# Altium footprint library Protel 99SE BANKS PCB.PCBLIB: 278 footprints (part 11 of 18)
Each footprint in its own frame and in the unit in brackets; x right, y up, seen from the top. Pads: shape width x height; smd on the part's side, far side on the other; paste and mask are expansions set on the pad; w line width, h text height; cw(c..) or ccw(c..) is an arc to the next point about the centre after c.
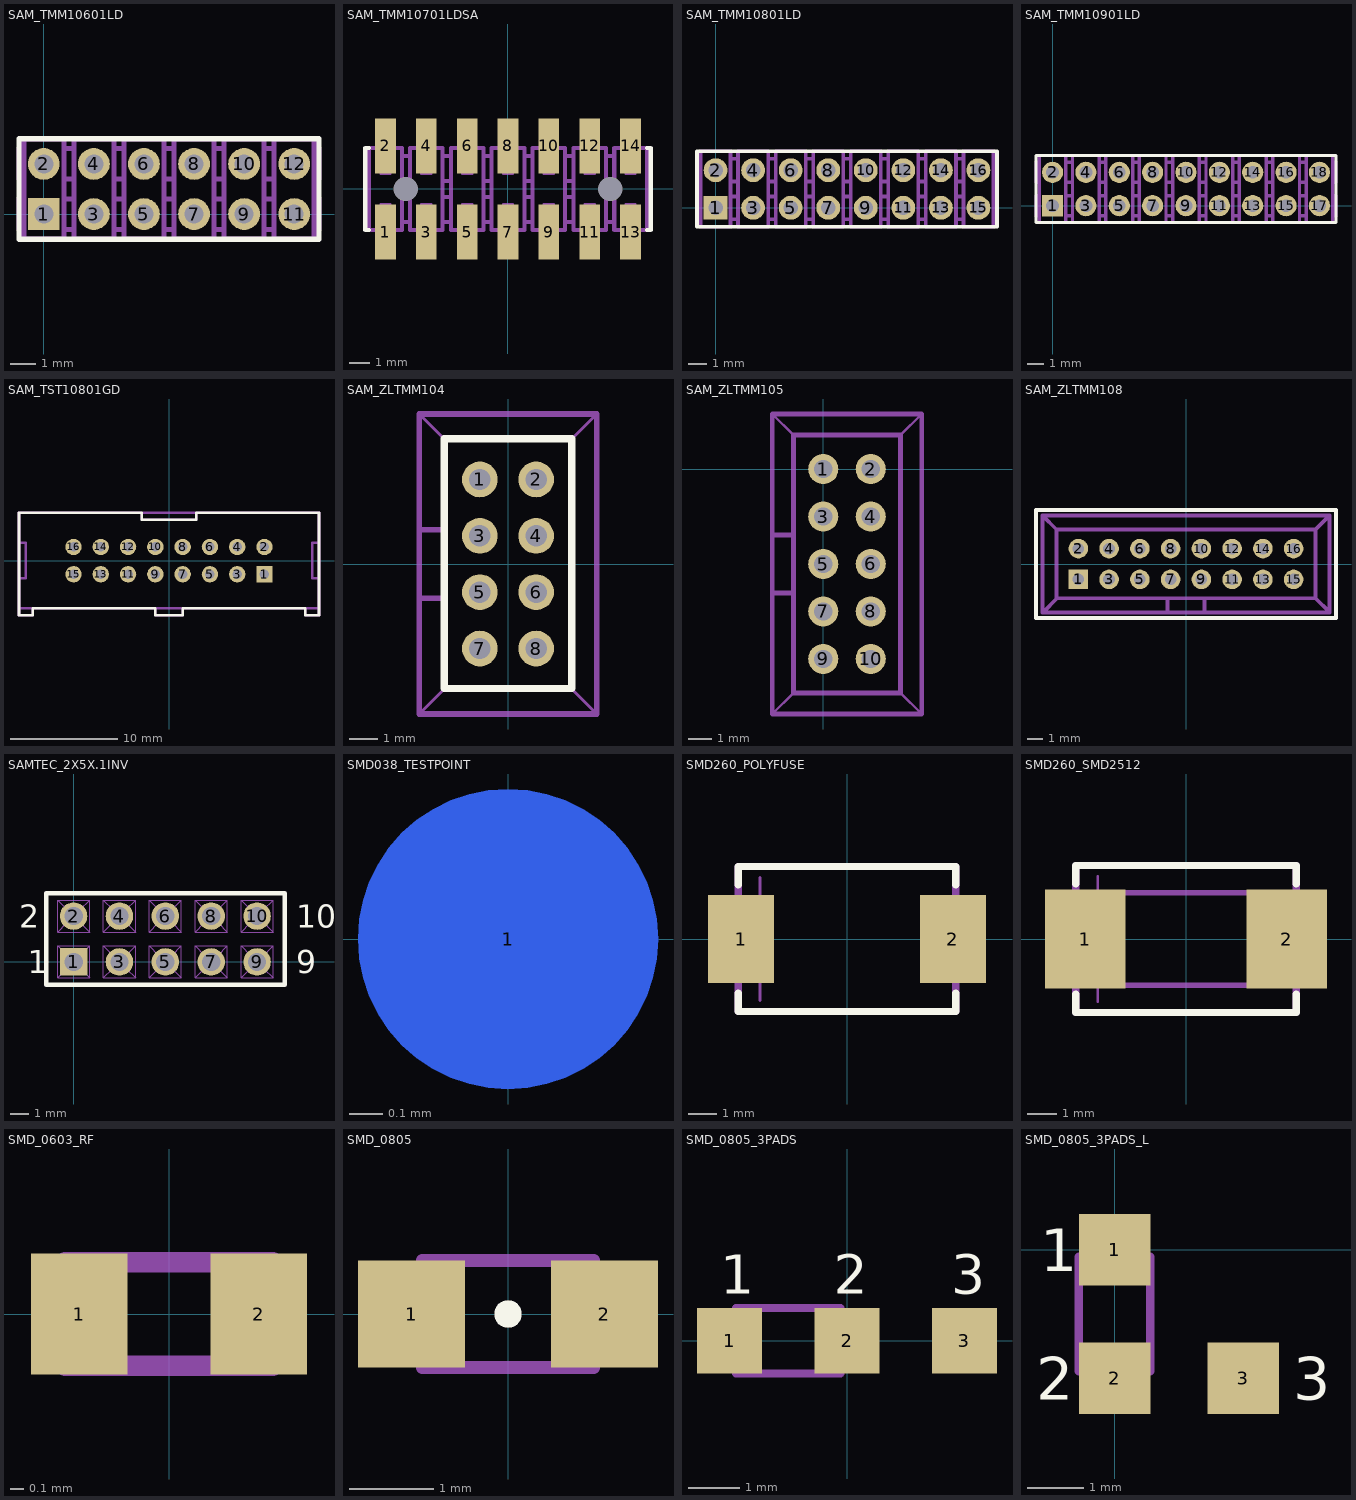
[diagram p10: the footprints below, top view; thin cyan lines are the x and y axes]

## SAM_TMM10601LD [mm]
pads (12):
  rect 1.27x1.27 hole 0.762: 1(0,0)
  round 1.27 hole 0.762: 2(0,2) 3(2,0) 4(2,2) 5(4,0) 6(4,2) 7(6,0) 8(6,2) 9(8,0) 10(8,2) 11(10,0) 12(10,2)
TopOverlay:
  lines w0.203: -0.991,-1.007 10.991,-1.007 10.991,3.007 -0.991,3.007 -0.991,-1.007
Mechanical3:
  drawing of 200 lines, arcs and shapes, not listed

## SAM_TMM10701LDSA [mil]
pads (16):
  rect 40x106 smd: 1(-236.22,-83) 2(-236.22,83) 3(-157.48,-83) 4(-157.48,83) 5(-78.74,-83) 6(-78.74,83) 7(0,-83) 8(0,83) 9(78.74,-83) 10(78.74,83) 11(157.48,-83) 12(157.48,83) 13(236.22,-83) 14(236.22,83)
  round 20 hole 47 unplated: ""(-196.85,0) ""(196.85,0)
TopOverlay:
  lines w8: -268.22,-79 -275.24,-79 -275.24,79 -268.22,79 ; 268.26,-79 275.24,-79 275.24,79 268.26,79
Mechanical3:
  drawing of 316 lines, arcs and shapes, not listed

## SAM_TMM10801LD [mil]
pads (16):
  rect 50x50 hole 30: 1(0,0)
  round 50 hole 30: 2(0,78.74) 3(78.74,0) 4(78.74,78.74) 5(157.48,0) 6(157.48,78.74) 7(236.22,0) 8(236.22,78.74) 9(314.96,0) 10(314.96,78.74) 11(393.7,0) 12(393.7,78.74) 13(472.44,0) 14(472.44,78.74) 15(551.18,0) 16(551.18,78.74)
TopOverlay:
  lines w8: -39.02,-39.63 590.2,-39.63 590.2,118.37 -39.02,118.37 -39.02,-39.63
Mechanical3:
  drawing of 264 lines, arcs and shapes, not listed

## SAM_TMM10901LD [mm]
pads (18):
  rect 1.27x1.27 hole 0.762: 1(0,0)
  round 1.27 hole 0.762: 2(0,2) 3(2,0) 4(2,2) 5(4,0) 6(4,2) 7(6,0) 8(6,2) 9(8,0) 10(8,2) 11(10,0) 12(10,2) 13(12,0) 14(12,2) 15(14,0) 16(14,2) 17(16,0) 18(16,2)
TopOverlay:
  lines w0.203: -0.991,-1.007 -0.991,3.007 16.991,3.007 16.991,-1.007 -0.991,-1.007
Mechanical3:
  drawing of 298 lines, arcs and shapes, not listed

## SAM_TST10801GD [mil] "Shrouded Header 100mil 8 x 2"
height 350
pads (16):
  rect 60x60 hole 35: 1(350,-50)
  round 60 hole 35: 2(350,50) 3(250,-50) 4(250,50) 5(150,-50) 6(150,50) 7(50,-50) 8(50,50) 9(-50,-50) 10(-50,50) 11(-150,-50) 12(-150,50) 13(-250,-50) 14(-250,50) 15(-350,-50) 16(-350,50)
TopOverlay:
  lines w10: -550,-200 -550,175 -100,175 -100,150 100,150 100,175 550,175 550,-200 500,-200 500,-175 50,-175 50,-200 -50,-200 -50,-175 -500,-175 -500,-200 -550,-200
Mechanical3:
  lines w10: -550,-65 -525,-65 -525,65 -550,65 ; -500,-175 -500,-200 -550,-200 -550,-175 ; -100,175 -100,150 100,150 100,175 ; -50,-175 -50,-200 50,-200 50,-175 ; 500,-175 500,-200 550,-200 550,-175 ; 550,-65 525,-65 525,65 550,65 ; -550,-175 -550,175 550,175 550,-175 ; -550,-175 0,-175 550,-175

## SAM_ZLTMM104 [mm]
pads (8):
  round 1.27 hole 0.762: 1(-1,3) 2(1,3) 3(-1,1) 4(1,1) 5(-1,-1) 6(1,-1) 7(-1,-3) 8(1,-3)
TopOverlay:
  lines w0.254: -2.261,-4.42 -2.261,4.394 -2.261,4.445 -1.651,4.445 2.261,4.445 2.261,-4.42 -2.261,-4.42
Mechanical3:
  lines w0.051: -1.254,-3.254 -1.076,-3.076 ; -1.254,-2.746 -1.076,-2.924 ; -1.254,-1.254 -1.076,-1.076 ; -1.254,-0.746 -1.076,-0.924 ; -1.254,0.746 -1.076,0.924 ; -1.254,1.254 -1.076,1.076 ; -1.254,2.746 -1.076,2.924 ; -1.254,3.254 -1.076,3.076 ; -0.746,-3.254 -0.924,-3.076 ; -0.746,-2.746 -0.924,-2.924 ; -0.746,-1.254 -0.924,-1.076 ; -0.746,-0.746 -0.924,-0.924 ; -0.746,0.746 -0.924,0.924 ; -0.746,1.254 -0.924,1.076 ; -0.746,2.746 -0.924,2.924 ; -0.746,3.254 -0.924,3.076 ; 0.746,-3.254 0.924,-3.076 ; 0.746,-2.746 0.924,-2.924 ; 0.746,-1.254 0.924,-1.076 ; 0.746,-0.746 0.924,-0.924 ; 0.746,0.746 0.924,0.924 ; 0.746,1.254 0.924,1.076 ; 0.746,2.746 0.924,2.924 ; 0.746,3.254 0.924,3.076 ; 1.254,-3.254 1.076,-3.076 ; 1.254,-2.746 1.076,-2.924 ; 1.254,-1.254 1.076,-1.076 ; 1.254,-0.746 1.076,-0.924 ; 1.254,0.746 1.076,0.924 ; 1.254,1.254 1.076,1.076 ; 1.254,2.746 1.076,2.924 ; 1.254,3.254 1.076,3.076 ; -1.076,-3.076 -1.076,-2.924 ; -1.076,-3.076 -0.924,-3.076 ; -1.076,-2.924 -0.924,-2.924 ; -1.076,-1.076 -1.076,-0.924 ; -1.076,-1.076 -0.924,-1.076 ; -1.076,-0.924 -0.924,-0.924 ; -1.076,0.924 -1.076,1.076 ; -1.076,0.924 -0.924,0.924 ; -1.076,1.076 -0.924,1.076 ; -1.076,2.924 -1.076,3.076 ; -1.076,2.924 -0.924,2.924 ; -1.076,3.076 -0.924,3.076 ; -0.924,-3.076 -0.924,-2.924 ; -0.924,-1.076 -0.924,-0.924 ; -0.924,0.924 -0.924,1.076 ; -0.924,2.924 -0.924,3.076 ; 0.924,-3.076 0.924,-2.924 ; 0.924,-3.076 1.076,-3.076 ; 0.924,-2.924 1.076,-2.924 ; 0.924,-1.076 0.924,-0.924 ; 0.924,-1.076 1.076,-1.076 ; 0.924,-0.924 1.076,-0.924 ; 0.924,0.924 0.924,1.076 ; 0.924,0.924 1.076,0.924 ; 0.924,1.076 1.076,1.076 ; 0.924,2.924 0.924,3.076 ; 0.924,2.924 1.076,2.924 ; 0.924,3.076 1.076,3.076 ; 1.076,-3.076 1.076,-2.924 ; 1.076,-1.076 1.076,-0.924 ; 1.076,0.924 1.076,1.076 ; 1.076,2.924 1.076,3.076
  lines w0.102: -3.15,-5.325 -2.261,-4.436 ; -3.15,5.325 -2.261,4.436 ; 2.261,-4.436 3.15,-5.325 ; 2.261,4.436 3.15,5.325 ; -1.254,-3.254 -0.746,-3.254 -0.746,-2.746 -1.254,-2.746 -1.254,-3.254 ; -1.254,-1.254 -0.746,-1.254 -0.746,-0.746 -1.254,-0.746 -1.254,-1.254 ; -1.254,0.746 -0.746,0.746 -0.746,1.254 -1.254,1.254 -1.254,0.746 ; -1.254,2.746 -0.746,2.746 -0.746,3.254 -1.254,3.254 -1.254,2.746 ; 0.746,-3.254 0.746,-2.746 1.254,-2.746 1.254,-3.254 0.746,-3.254 ; 0.746,-1.254 0.746,-0.746 1.254,-0.746 1.254,-1.254 0.746,-1.254 ; 0.746,0.746 0.746,1.254 1.254,1.254 1.254,0.746 0.746,0.746 ; 0.746,2.746 0.746,3.254 1.254,3.254 1.254,2.746 0.746,2.746
  lines w0.203: -3.15,-5.325 3.15,-5.325 ; -3.15,-5.309 -3.15,5.325 3.15,5.325 3.15,-5.309 ; -3.15,-1.219 -2.261,-1.219 ; -3.15,1.219 -2.261,1.219 ; -2.261,-4.436 2.261,-4.436 ; -2.261,-4.42 -2.261,4.436 2.261,4.436 2.261,-4.42

## SAM_ZLTMM105 [mm]
pads (10):
  round 1.27 hole 0.762: 1(0,0) 2(2,0) 3(0,-2) 4(2,-2) 5(0,-4) 6(2,-4) 7(0,-6) 8(2,-6) 9(0,-8) 10(2,-8)
Mechanical3:
  lines w0.051: -0.254,-8.254 -0.076,-8.076 ; -0.254,-7.746 -0.076,-7.924 ; -0.254,-6.254 -0.076,-6.076 ; -0.254,-5.746 -0.076,-5.924 ; -0.254,-4.254 -0.076,-4.076 ; -0.254,-3.746 -0.076,-3.924 ; -0.254,-2.254 -0.076,-2.076 ; -0.254,-1.746 -0.076,-1.924 ; -0.254,-0.254 -0.076,-0.076 ; -0.254,0.254 -0.076,0.076 ; 0.254,-8.254 0.076,-8.076 ; 0.254,-7.746 0.076,-7.924 ; 0.254,-6.254 0.076,-6.076 ; 0.254,-5.746 0.076,-5.924 ; 0.254,-4.254 0.076,-4.076 ; 0.254,-3.746 0.076,-3.924 ; 0.254,-2.254 0.076,-2.076 ; 0.254,-1.746 0.076,-1.924 ; 0.254,-0.254 0.076,-0.076 ; 0.254,0.254 0.076,0.076 ; 1.746,-8.254 1.924,-8.076 ; 1.746,-7.746 1.924,-7.924 ; 1.746,-6.254 1.924,-6.076 ; 1.746,-5.746 1.924,-5.924 ; 1.746,-4.254 1.924,-4.076 ; 1.746,-3.746 1.924,-3.924 ; 1.746,-2.254 1.924,-2.076 ; 1.746,-1.746 1.924,-1.924 ; 1.746,-0.254 1.924,-0.076 ; 1.746,0.254 1.924,0.076 ; 2.254,-8.254 2.076,-8.076 ; 2.254,-7.746 2.076,-7.924 ; 2.254,-6.254 2.076,-6.076 ; 2.254,-5.746 2.076,-5.924 ; 2.254,-4.254 2.076,-4.076 ; 2.254,-3.746 2.076,-3.924 ; 2.254,-2.254 2.076,-2.076 ; 2.254,-1.746 2.076,-1.924 ; 2.254,-0.254 2.076,-0.076 ; 2.254,0.254 2.076,0.076 ; -0.076,-8.076 -0.076,-7.924 ; -0.076,-8.076 0.076,-8.076 ; -0.076,-7.924 0.076,-7.924 ; -0.076,-6.076 -0.076,-5.924 ; -0.076,-6.076 0.076,-6.076 ; -0.076,-5.924 0.076,-5.924 ; -0.076,-4.076 -0.076,-3.924 ; -0.076,-4.076 0.076,-4.076 ; -0.076,-3.924 0.076,-3.924 ; -0.076,-2.076 -0.076,-1.924 ; -0.076,-2.076 0.076,-2.076 ; -0.076,-1.924 0.076,-1.924 ; -0.076,-0.076 -0.076,0.076 ; -0.076,-0.076 0.076,-0.076 ; -0.076,0.076 0.076,0.076 ; 0.076,-8.076 0.076,-7.924 ; 0.076,-6.076 0.076,-5.924 ; 0.076,-4.076 0.076,-3.924 ; 0.076,-2.076 0.076,-1.924 ; 0.076,-0.076 0.076,0.076 ; 1.924,-8.076 1.924,-7.924 ; 1.924,-8.076 2.076,-8.076 ; 1.924,-7.924 2.076,-7.924 ; 1.924,-6.076 1.924,-5.924 ; 1.924,-6.076 2.076,-6.076 ; 1.924,-5.924 2.076,-5.924 ; 1.924,-4.076 1.924,-3.924 ; 1.924,-4.076 2.076,-4.076 ; 1.924,-3.924 2.076,-3.924 ; 1.924,-2.076 1.924,-1.924 ; 1.924,-2.076 2.076,-2.076 ; 1.924,-1.924 2.076,-1.924 ; 1.924,-0.076 1.924,0.076 ; 1.924,-0.076 2.076,-0.076 ; 1.924,0.076 2.076,0.076 ; 2.076,-8.076 2.076,-7.924 ; 2.076,-6.076 2.076,-5.924 ; 2.076,-4.076 2.076,-3.924 ; 2.076,-2.076 2.076,-1.924 ; 2.076,-0.076 2.076,0.076
  lines w0.102: -2.15,-10.325 -1.261,-9.436 ; -2.15,2.325 -1.261,1.436 ; 3.261,-9.436 4.15,-10.325 ; 3.261,1.436 4.15,2.325 ; -0.254,-8.254 0.254,-8.254 0.254,-7.746 -0.254,-7.746 -0.254,-8.254 ; -0.254,-6.254 0.254,-6.254 0.254,-5.746 -0.254,-5.746 -0.254,-6.254 ; -0.254,-4.254 0.254,-4.254 0.254,-3.746 -0.254,-3.746 -0.254,-4.254 ; -0.254,-2.254 0.254,-2.254 0.254,-1.746 -0.254,-1.746 -0.254,-2.254 ; -0.254,-0.254 0.254,-0.254 0.254,0.254 -0.254,0.254 -0.254,-0.254 ; 1.746,-8.254 1.746,-7.746 2.254,-7.746 2.254,-8.254 1.746,-8.254 ; 1.746,-6.254 1.746,-5.746 2.254,-5.746 2.254,-6.254 1.746,-6.254 ; 1.746,-4.254 1.746,-3.746 2.254,-3.746 2.254,-4.254 1.746,-4.254 ; 1.746,-2.254 1.746,-1.746 2.254,-1.746 2.254,-2.254 1.746,-2.254 ; 1.746,-0.254 1.746,0.254 2.254,0.254 2.254,-0.254 1.746,-0.254
  lines w0.203: -2.15,-5.219 -1.261,-5.219 ; -2.15,-2.781 -1.261,-2.781 ; -2.15,-10.325 -2.15,2.325 4.15,2.325 4.15,-10.325 -2.15,-10.325 ; -1.261,-9.436 3.261,-9.436 3.261,1.436 -1.261,1.436 -1.261,-9.436

## SAM_ZLTMM108 [mm]
pads (16):
  rect 1.27x1.27 hole 0.762: 1(-7,-1)
  round 1.27 hole 0.762: 2(-7,1) 3(-5,-1) 4(-5,1) 5(-3,-1) 6(-3,1) 7(-1,-1) 8(-1,1) 9(1,-1) 10(1,1) 11(3,-1) 12(3,1) 13(5,-1) 14(5,1) 15(7,-1) 16(7,1)
TopOverlay:
  lines w0.254: -9.75,-3.5 9.75,-3.5 9.75,3.5 -9.75,3.5 -9.75,0 -9.75,-3.5
Mechanical3:
  lines w0.254: -9.3,-3.15 -8.375,-2.225 ; -8.425,-2.2 -8.425,0 -8.425,2.25 0,2.25 8.425,2.25 ; -8.4,-2.225 8.425,-2.225 ; -8.4,2.225 -9.325,3.15 ; -1.2,-3.15 -1.2,-2.7 ; -1.2,-2.725 -1.2,-2.225 ; 1.2,-3.15 1.2,-2.65 ; 1.2,-2.675 1.2,-2.225 ; 9.325,-3.125 8.425,-2.225 ; -9.325,3.15 -9.325,0 -9.325,-3.15 9.325,-3.15 9.325,3.15 ; -9.325,3.15 9.25,3.15 9.325,3.15 ; 8.425,-2.225 8.425,0 8.425,2.25 ; 8.425,2.25 9.325,3.15 ; 9.325,3.15 9.325,3.15

## SAMTEC_2X5X.1INV [mil]
pads (10):
  rect 60x60 hole 40: 1(0,0)
  round 60 hole 40: 2(0,100) 3(100,0) 4(100,100) 5(200,0) 6(200,100) 7(300,0) 8(300,100) 9(400,0) 10(400,100)
TopOverlay:
  lines w10: -60,-50 -60,150 460,150 460,-50 -60,-50
  text "10" at 485,75 h50
  text "1" at -100,-25 h50
  text "2" at -119,75 h50
  text "9" at 485,-25 h50
Mechanical3:
  lines w2: -15,-15 -35,-35 ; -15,15 -35,35 ; -15,85 -35,65 ; -15,115 -35,135 ; 15,-15 35,-35 ; 15,15 35,35 ; 15,85 35,65 ; 15,115 35,135 ; 85,-15 65,-35 ; 85,15 65,35 ; 85,85 65,65 ; 85,115 65,135 ; 115,-15 135,-35 ; 115,15 135,35 ; 115,85 135,65 ; 115,115 135,135 ; 185,-15 165,-35 ; 185,15 165,35 ; 185,85 165,65 ; 185,115 165,135 ; 215,-15 235,-35 ; 215,15 235,35 ; 215,85 235,65 ; 215,115 235,135 ; 285,-15 265,-35 ; 285,15 265,35 ; 285,85 265,65 ; 285,115 265,135 ; 315,-15 335,-35 ; 315,15 335,35 ; 315,85 335,65 ; 315,115 335,135 ; 385,-15 365,-35 ; 385,15 365,35 ; 385,85 365,65 ; 385,115 365,135 ; 415,-15 435,-35 ; 415,15 435,35 ; 415,85 435,65 ; 415,115 435,135 ; -35,-35 35,-35 ; -35,-35 -35,35 ; -35,35 35,35 ; -35,65 35,65 ; -35,65 -35,135 ; -35,135 35,135 ; 35,-35 35,35 ; 35,65 35,135 ; 65,-35 135,-35 ; 65,-35 65,35 ; 65,35 135,35 ; 65,65 135,65 ; 65,65 65,135 ; 65,135 135,135 ; 135,-35 135,35 ; 135,65 135,135 ; 165,-35 235,-35 ; 165,-35 165,35 ; 165,35 235,35 ; 165,65 235,65 ; 165,65 165,135 ; 165,135 235,135 ; 235,-35 235,35 ; 235,65 235,135 ; 265,-35 335,-35 ; 265,-35 265,35 ; 265,35 335,35 ; 265,65 335,65 ; 265,65 265,135 ; 265,135 335,135 ; 335,-35 335,35 ; 335,65 335,135 ; 365,-35 435,-35 ; 365,-35 365,35 ; 365,35 435,35 ; 365,65 435,65 ; 365,65 365,135 ; 365,135 435,135 ; 435,-35 435,35 ; 435,65 435,135
  lines w4: -15,-15 -15,15 15,15 15,-15 -15,-15 ; -15,85 -15,115 15,115 15,85 -15,85 ; 85,-15 85,15 115,15 115,-15 85,-15 ; 85,85 85,115 115,115 115,85 85,85 ; 185,-15 185,15 215,15 215,-15 185,-15 ; 185,85 185,115 215,115 215,85 185,85 ; 285,-15 285,15 315,15 315,-15 285,-15 ; 285,85 285,115 315,115 315,85 285,85 ; 385,-15 385,15 415,15 415,-15 385,-15 ; 385,85 385,115 415,115 415,85 385,85
  lines w8: -60,-50 -60,150 460,150 460,-50 -60,-50

## SMD038_TESTPOINT [mil]
pads (1):
  round 35 smd far side: 1(0,0)

## SMD260_POLYFUSE [mil]
pads (2):
  rect 91x122 smd: 1(-146,0) 2(146,0)
TopOverlay:
  lines w10: -150,-75 -150,-100 150,-100 150,-75 ; -150,75 -150,100 150,100 150,75
Mechanical3:
  lines w4: -120,-85 -120,85
  lines w10: -150,-100 -150,100 150,100 150,-100 -150,-100

## SMD260_SMD2512 [mil]
pads (2):
  rect 110x134 smd: 1(-137,0) 2(137,0)
TopOverlay:
  lines w10: -150,-75 -150,-100 150,-100 150,-75 ; -150,75 -150,100 150,100 150,75
Mechanical3:
  lines w2: -101,-63 -101,63 ; 101,-63 101,63
  lines w4: -120,-85 -120,85
  lines w7: -125,-63 125,-63 125,63 -125,63 -125,-63
  lines w10: -150,-100 150,-100 150,100 -150,100 -150,-100

## SMD_0603_RF [mil]
pads (2):
  rect 28x35 smd: 1(-26,0) 2(26,0)
Mechanical3:
  lines w2: -18,-15 -18,15 ; 18,-15 18,15
  lines w6: -30,-15 -30,15 30,15 30,-15 -30,-15

## SMD_0805 [mil]
pads (2):
  rect 50x50 smd: 1(-45,0) 2(45,0)
TopOverlay:
  circle w10: c0,0 r1.41
Mechanical3:
  lines w2: -24,-25 -24,25 ; 24,-25 24,25
  lines w6: -40,-25 -40,25 40,25 40,-25 -40,-25

## SMD_0805_3PADS [mil]
pads (3):
  rect 50x50 smd: 1(-90,0) 2(0,0) 3(90,0)
TopOverlay:
  text "1" at -97,36 h30
  text "2" at -10,36 h30
  text "3" at 80,36 h30
Mechanical3:
  lines w2: -69,-25 -69,25 ; -21,-25 -21,25
  lines w6: -85,-25 -85,25 -5,25 -5,-25 -85,-25

## SMD_0805_3PADS_L [mil]
pads (3):
  rect 50x50 smd: 1(0,0) 2(0,-90) 3(90,-90)
TopOverlay:
  text "1" at -52,-15 h30
  text "2" at -55,-105 h30
  text "3" at 125,-105 h30
Mechanical3:
  lines w2: -25,-69 25,-69 ; -25,-21 25,-21
  lines w6: -25,-85 25,-85 25,-5 -25,-5 -25,-85